# Altium integrated library BK-912.IntLib: 1 symbol
Pins are listed as number, name and electrical type; pins without a type are passive.

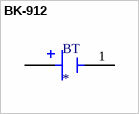
[diagram p0: symbol BK-912]

## BK-912
designator BT
BATTERY RETAINER COIN 20MM SMD; MF: MPD; MP: BK-912; Value: *; Price: None; Package: None; SnapEDA_Link: https://www.snapeda.com/parts/BK-912/Memory%20Protection%20Devices/view-part/4219672/?ref=snap; Availability: Unavailable
footprint BAT_BK-912
pins: 1 NEG, S1 POS, S2 POS